# EAGLE library part MC100EPT21 (library yapo)
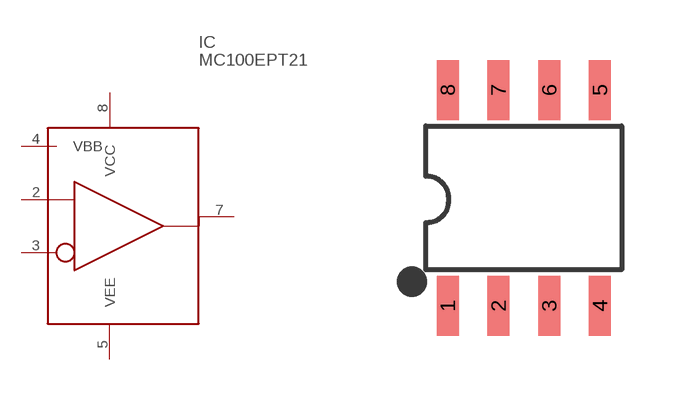
[diagram p47: symbol with the pads of SOIC8; footprint SOIC8]

Designator prefix IC

## MC100EPT21  [SOIC8]
2  D
3  !D!
4  VBB
5  VEE
7  Q
8  VCC

## Footprint SOIC8 (pad centres in mm)
smd 0.55 x 1.5: 1 -1.905,-2.7; 2 -0.635,-2.7; 3 0.635,-2.7; 4 1.905,-2.7; 5 1.905,2.7; 6 0.635,2.7; 7 -0.635,2.7; 8 -1.905,2.7